# Altium footprint library BASIC Library.PCBLIB: 464 footprints (part 3 of 30)
Each footprint in its own frame and in the unit in brackets; x right, y up, seen from the top. Pads: shape width x height; smd on the part's side, far side on the other; paste and mask are expansions set on the pad; w line width, h text height; cw(c..) or ccw(c..) is an arc to the next point about the centre after c.
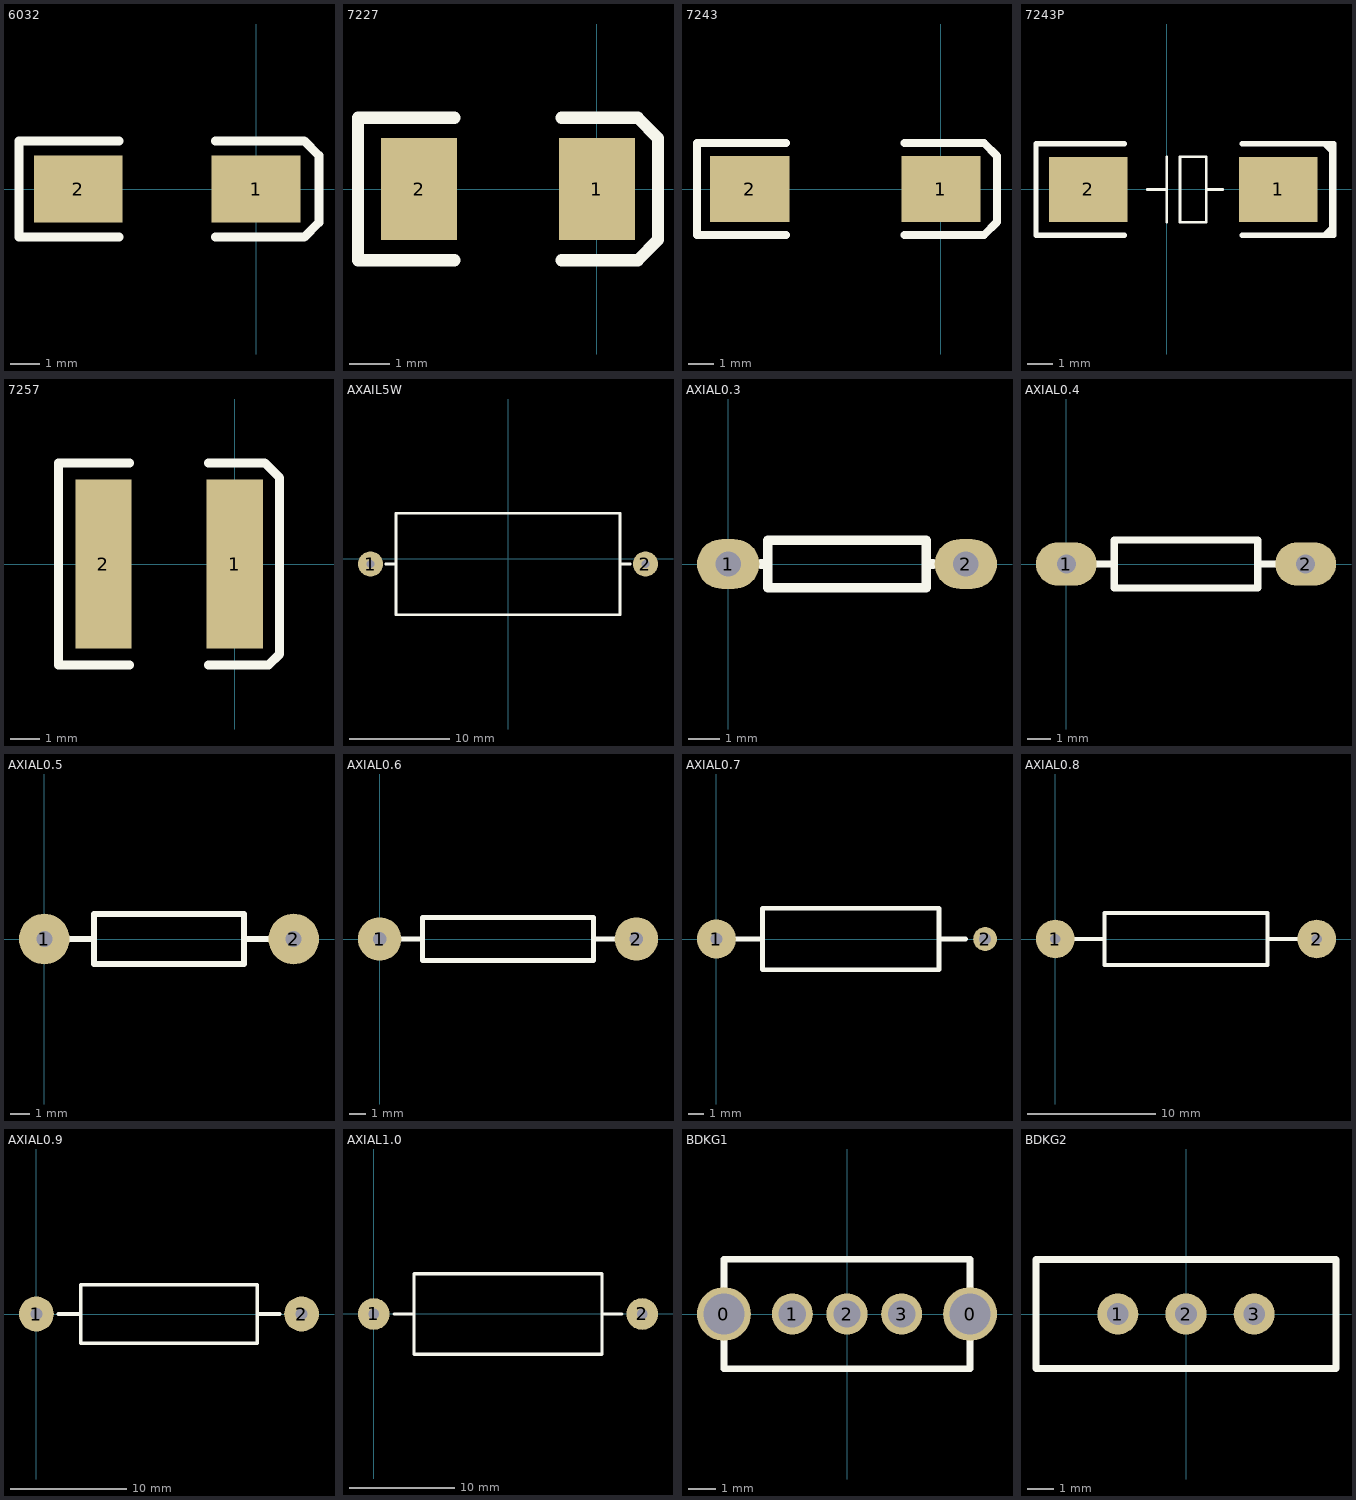
[diagram p2: the footprints below, top view; thin cyan lines are the x and y axes]

## 6032 [mil]
pads (2):
  rect 120x90 smd: 1(0,0) 2(-240,0)
TopOverlay:
  lines w12: -185,-65 -320,-65 -320,65 -185,65 ; -55,-65 65,-65 85,-45 85,45 65,65 -55,65

## 7227 [mil]
pads (2):
  rect 75x100 smd: 1(0,0) 2(-175,0)
TopOverlay:
  lines w12: -140,-70 -235,-70 -235,70 -140,70 ; -35,-70 40,-70 60,-50 60,50 40,70 -35,70

## 7243 [mil]
pads (2):
  rect 120x100 smd: 1(0,0) 2(-290,0)
TopOverlay:
  lines w12: -235,-70 -370,-70 -370,70 -235,70 ; -55,-70 65,-70 85,-50 85,50 65,70 -55,70

## 7243P [mil]
pads (2):
  rect 120x100 smd: 1(170,0) 2(-120,0)
TopOverlay:
  rectangle: 243,-70 252,-65
  rectangle: 247.5,-68.5 249.5,-63.5
  rectangle: 249.25,-69.25 253.75,-59.25
  region: 255,58 255,67 250,67 250,58
  region: 253.5,62.5 253.5,64.5 248.5,64.5 248.5,62.5
  region: 254.25,64.25 254.25,68.75 244.25,68.75 244.25,64.25
  rectangle: 247.5,-68.5 258.25,65.75
  lines w4: -30,0 0,0 ; 0,-50 0,50 ; 60,0 85,0 ; 20,-50 60,-50 60,50 20,50 20,-50
  lines w8: -65,-70 -200,-70 -200,70 -65,70 ; 115,-70 255,-70 255,70 115,70 ; 240,-70 255,-55 ; 240,70 255,55

## 7257 [mil]
pads (2):
  rect 75x225 smd: 1(0,0) 2(-175,0)
TopOverlay:
  lines w12: -140,-135 -235,-135 -235,135 -140,135 ; -35,-135 45,-135 60,-120 60,115 40,135 -35,135

## AXAIL5W [mil]
pads (2):
  round 98.42 hole 30: 1(-540,-20) 2(540,-20)
TopOverlay:
  lines w10: -480,-20 -440,-20 ; 440,-20 480,-20 ; -440,-220 -440,180 440,180 440,-220 -440,-220

## AXIAL0.3 [mm]
pads (2):
  oval 2x1.6 hole 0.813: 1(0,0) 2(7.62,0)
TopOverlay:
  lines w0.305: 1.041,0 1.27,0 ; 6.579,0 6.35,0 ; 6.35,0 6.35,0.762 1.27,0.762 1.27,-0.762 6.35,-0.762 6.35,0

## AXIAL0.4 [mil]
pads (2):
  oval 101.37x72 hole 32: 1(0,0) 2(400,0)
TopOverlay:
  lines w12: 40,0 80,0 ; 320,0 360,0 ; 80,-40 320,-40 320,40 80,40 80,-40

## AXIAL0.5 [mil]
pads (2):
  round 101.37 hole 32: 1(0,0) 2(500,0)
TopOverlay:
  lines w12: 40,0 100,0 ; 400,0 460,0 ; 100,-50 100,50 400,50 400,-50 100,-50

## AXIAL0.6 [mil]
pads (2):
  round 101.37 hole 32: 1(0,0) 2(600,0)
TopOverlay:
  lines w12: 40,0 100,0 ; 500,0 560,0 ; 100,-50 500,-50 500,50 100,50 100,-50

## AXIAL0.7 [mil]
pads (2):
  round 101.37 hole 32: 1(0,0)
  round 62 hole 32: 2(700,0)
TopOverlay:
  lines w12: 50,0 120,0 ; 580,0 650,0 ; 120,-80 580,-80 580,80 120,80 120,-80

## AXIAL0.8 [mm]
pads (2):
  round 3 hole 0.813: 1(0,0) 2(20.32,0)
TopOverlay:
  lines w0.305: 1.27,0 3.81,0 ; 16.51,0 19.05,0 ; 3.81,-2.032 16.51,-2.032 16.51,2.032 3.81,2.032 3.81,-2.032

## AXIAL0.9 [mm]
pads (2):
  round 3 hole 1.016: 1(0,0) 2(22.86,0)
TopOverlay:
  lines w0.305: 1.905,0 3.81,0 ; 19.05,0 20.955,0 ; 3.81,-2.54 3.81,2.54 19.05,2.54 19.05,-2.54 3.81,-2.54

## AXIAL1.0 [mm]
pads (2):
  round 3 hole 1.016: 1(0,0) 2(25.4,0)
TopOverlay:
  lines w0.305: 1.905,0 3.81,0 ; 21.59,0 23.495,0 ; 3.81,-3.81 3.81,3.81 21.59,3.81 21.59,-3.81 3.81,-3.81

## BDKG1 [mil]
pads (5):
  round 78.74 hole 60: 0(-180,0) 0(180,0)
  round 60 hole 40: 1(-80,0) 2(0,0) 3(80,0)
TopOverlay:
  lines w10: -180,-80 -180,80 180,80 180,-80 -180,-80

## BDKG2 [mil]
pads (3):
  round 60 hole 32: 1(-100,0) 2(0,0) 3(100,0)
TopOverlay:
  lines w10: -220,-80 220,-80 220,80 -220,80 -220,-80